# EAGLE library part AN6884 (library linear)
5-LED VU METER DRIVER
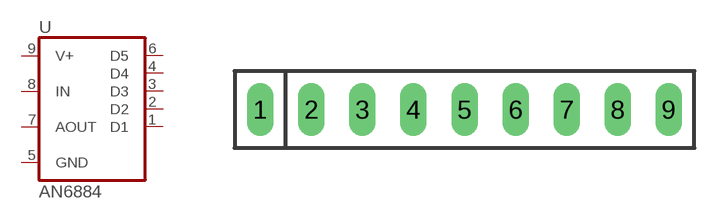
[diagram p203: symbol with the pads of SIP9; footprint SIP9]

Designator prefix U

## AN6884  [SIP9]
1  D1  out
2  D2  out
3  D3  out
4  D4  out
5  GND  pwr
6  D5  out
7  AOUT  out
8  IN  in
9  V+  pwr

## Footprint SIP9 (pad centres in mm)
SIP-9 9 Pin SIP IC
drill 0.813 long: 1 -10.16,0; 2 -7.62,0; 3 -5.08,0; 4 -2.54,0; 5 0,0; 6 2.54,0; 7 5.08,0; 8 7.62,0; 9 10.16,0